# EAGLE library part HDSP-C3E3 (library OPTO)
7-Segment LED Display, 1, 9.1 mm, Red, Common Cathode, 1.1 mcd, 20 mA
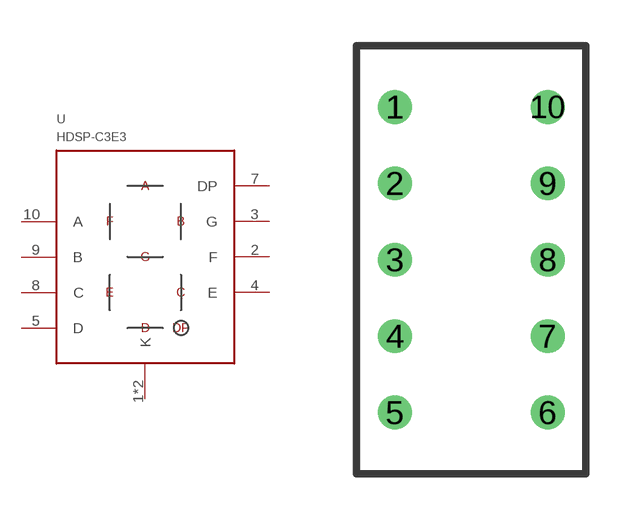
[diagram p2: symbol with the pads of HDSP-C3E3; footprint HDSP-C3E3]

Designator prefix U

## HDSP-C3E3 (FARNELL: 1830006; PRICE_PER: 0.4198; VALUE: HDSP-C3E3)  [HDSP-C3E3]
1  K
2  F
3  G
4  E
5  D
6  K
7  DP
8  C
9  B
10  A

## Footprint HDSP-C3E3 (pad centres in mm)
drill 0.6: 1 -2.5,5; 2 -2.5,2.5; 3 -2.5,0; 4 -2.5,-2.5; 5 -2.5,-5; 6 2.5,-5; 7 2.5,-2.5; 8 2.5,0; 9 2.5,2.5; 10 2.5,5